# Altium footprint library CAN_BUS.PcbLib: 16 footprints
Each footprint in its own frame and in the unit in brackets; x right, y up, seen from the top. Pads: shape width x height; smd on the part's side, far side on the other; paste and mask are expansions set on the pad; w line width, h text height; cw(c..) or ccw(c..) is an arc to the next point about the centre after c.
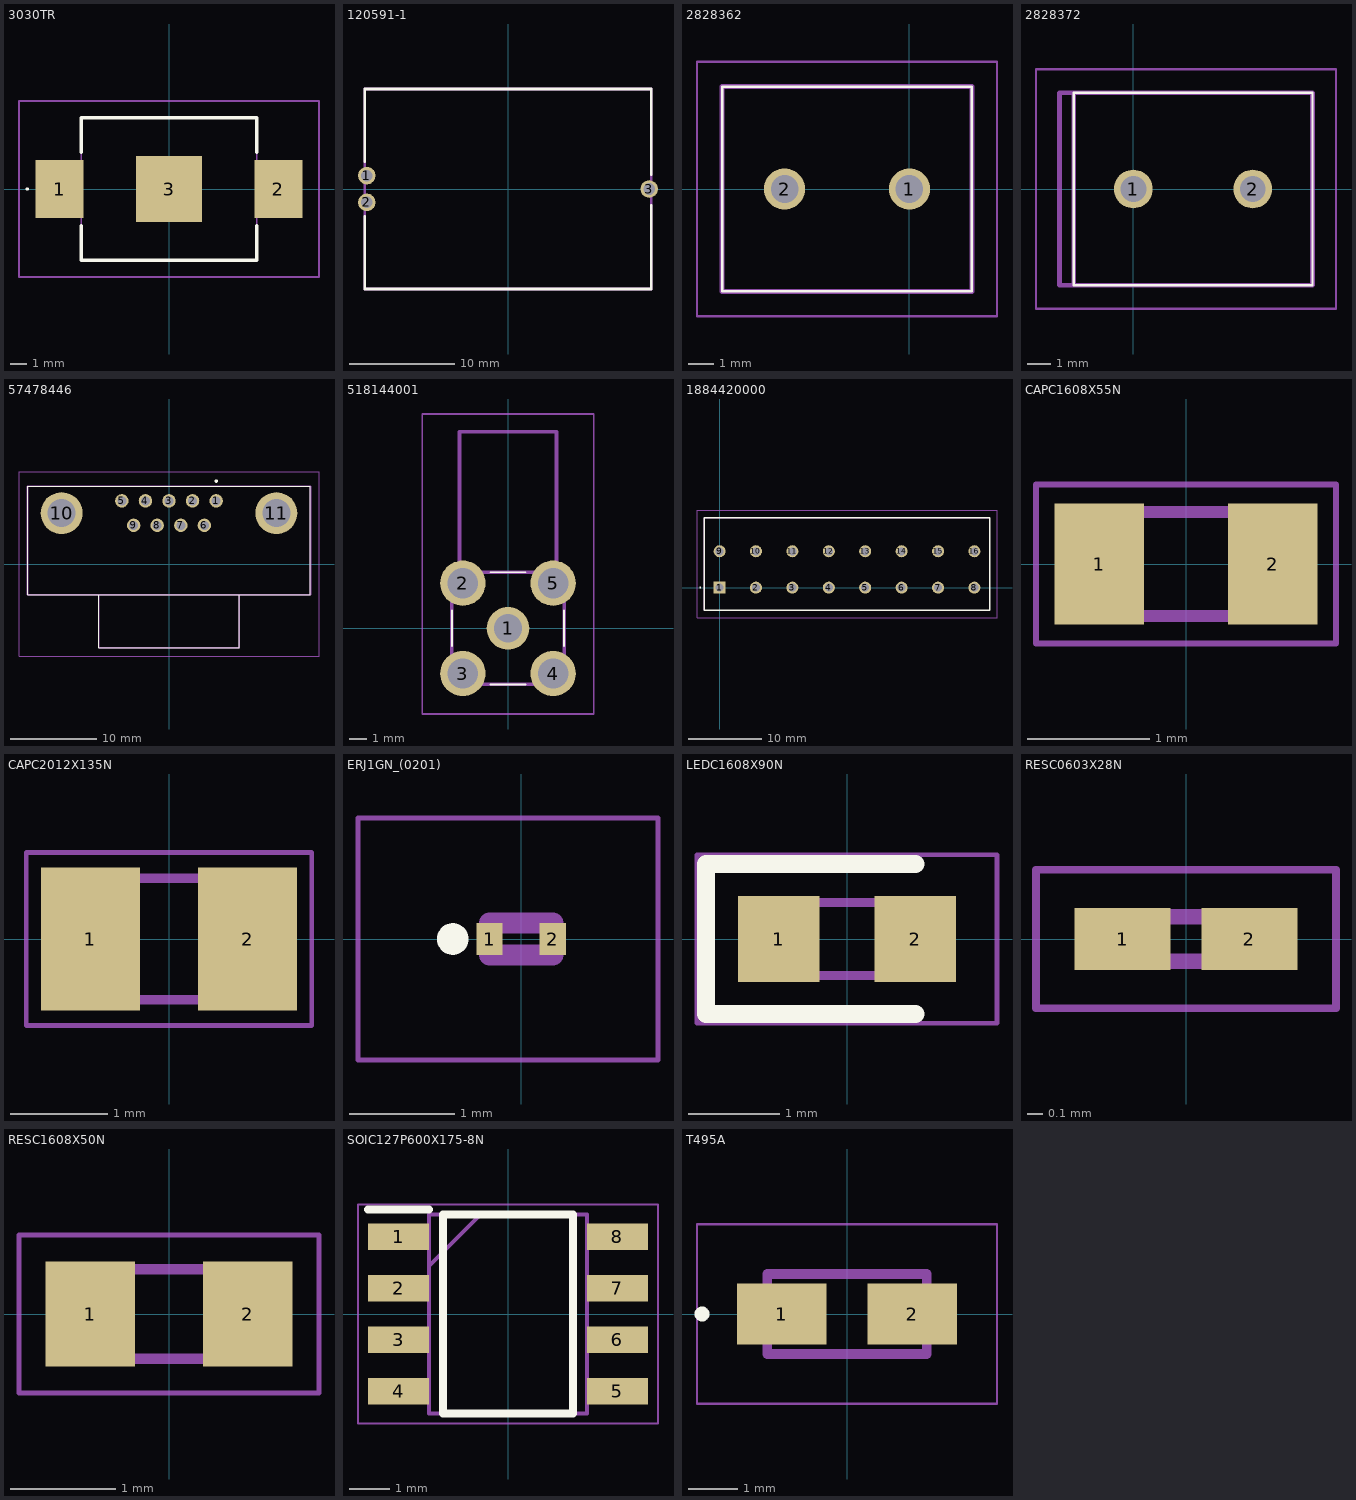
[diagram p0: the footprints below, top view; thin cyan lines are the x and y axes]

## 3030TR [mm]
pads (3):
  rect 2.9x3.5 smd: 1(-6.6,0) 2(6.6,0)
  rect 3.96x3.96 smd: 3(0,0)
Top Overlay:
  lines w0.1: -8.6,0 ccw(c-8.55,0) -8.5,0 ccw(c-8.55,0) -8.6,0
  lines w0.2: -5.3,-2.2 -5.3,-4.305 5.3,-4.305 5.3,-2.2 ; -5.3,2.2 -5.3,4.305 5.3,4.305 5.3,2.2
Mechanical 13:
  lines w0.1: -5.3,-4.305 5.3,-4.305 5.3,4.305 -5.3,4.305 -5.3,-4.305
Mechanical 15:
  lines w0.1: -9.05,-5.305 9.05,-5.305 9.05,5.305 -9.05,5.305 -9.05,-5.305
3D body "3030TR.stp": height 4.61, standoff -4, extent -8.052,0 8.052,2.952

## 120591-1 [mm]
pads (3):
  round 1.67 hole 1.12: 1(-13.46,1.27) 2(-13.46,-1.27) 3(13.46,0)
Top Overlay:
  lines w0.254: -13.65,-2.62 -13.65,-9.525 13.65,-9.525 13.65,-1.538 ; -13.65,2.615 -13.65,9.525 13.65,9.525 13.65,1.359
Mechanical 13:
  lines w0.254: -13.65,-9.525 -13.65,9.525 13.65,9.525 13.65,-9.525 -13.65,-9.525
3D body "120591-1.stp": height 6.32, standoff -3.13, extent -13.684,-9.525 13.621,9.525

## 2828362 [mm]
pads (2):
  round 1.65 hole 1.1: 1(0,0) 2(-5,0)
Top Overlay:
  lines w0.1: -7.5,-4.1 2.5,-4.1 2.5,4.1 -7.5,4.1 -7.5,-4.1
Mechanical 13:
  lines w0.2: -7.5,-4.1 -7.5,4.1 2.5,4.1 2.5,-4.1 -7.5,-4.1
Mechanical 15:
  lines w0.1: -8.5,-5.1 3.5,-5.1 3.5,5.1 -8.5,5.1 -8.5,-5.1
3D body "282836-2.stp": height 10.02, standoff -3.48, extent -8.09,-4.1 2.51,4.1

## 2828372 [mm]
pads (2):
  round 1.65 hole 1.1: 1(0,0) 2(5.08,0)
Top Overlay:
  lines w0.1: -2.54,-4.1 -2.54,4.1 7.62,4.1 7.62,-4.1 -2.54,-4.1
Mechanical 13:
  lines w0.2: -2.54,-4.1 -3.14,-4.1 -3.14,4.1 -2.54,4.1 ; -2.54,-4.1 -2.54,4.1 ; -2.54,-4.1 -2.54,4.1 ; -2.54,-4.1 7.62,-4.1 7.62,4.1 -2.54,4.1
Mechanical 15:
  lines w0.1: -4.14,-5.1 -4.14,5.1 8.62,5.1 8.62,-5.1 -4.14,-5.1
3D body "282837-2.stp": height 9.84, standoff -3.66, extent -2.51,-4.11 8.25,4.09

## 57478446 [mil]
pads (11):
  round 61.5 hole 41: 1(215.98,289.13) 2(107.99,289.13) 3(0,289.13) 4(-107.99,289.13) 5(-215.98,289.13) 6(162.01,177.13) 7(54.02,177.13) 8(-54.02,177.13) 9(-162.01,177.13)
  round 192 hole 128: 10(-492.01,233.11) 11(492.01,233.11)
Top Overlay:
  lines w3.94: -321.5,-140.87 -321.5,-383.86 321.5,-383.86 321.5,-140.87 ; -647.99,-140.87 -647.99,356.14 647.99,356.14 647.99,-140.87 -647.99,-140.87
  lines w7.87: 212.6,379.92 ccw(c216.54,379.92) 220.47,379.92 ccw(c216.54,379.92) 212.6,379.92
Mechanical 13:
  lines w7.87: -321.5,-140.87 -321.5,-383.86 321.5,-383.86 321.5,-140.87 ; -647.99,-140.87 -647.99,356.14 647.99,356.14 647.99,-140.87 -647.99,-140.87
Mechanical 15:
  lines w3.94: -687.36,-423.23 -687.36,423.23 687.36,423.23 687.36,-423.23 -687.36,-423.23
3D body "5747844-6.stp": height 484.4, standoff -138, extent -610,-383.24 610,360.66

## 518144001 [mm]
pads (5):
  round 2.4 hole 1.6: 1(0,0)
  round 2.55 hole 1.7: 2(-2.54,2.54) 3(-2.54,-2.54) 4(2.54,-2.54) 5(2.54,2.54)
Top Overlay:
  lines w0.1: -3.15,-1 -3.15,1 ; -1,-3.15 1,-3.15 ; -1,3.15 1,3.15 ; 3.15,-1 3.15,1
Mechanical 13:
  lines w0.2: -2.725,3.15 -2.725,11.05 2.725,11.05 2.725,3.15 ; -3.15,-3.15 -3.15,3.15 3.15,3.15 3.15,-3.15 -3.15,-3.15
Mechanical 15:
  lines w0.1: -4.815,-4.815 -4.815,12.05 4.815,12.05 4.815,-4.815 -4.815,-4.815
3D body "5-1814400-1.stp": height 10.52, standoff -3.01, extent -3.164,-3.17 3.164,11.03

## 1884420000 [mm]
pads (16):
  rect 1.65x1.65 hole 1.1: 1(0,0)
  round 1.65 hole 1.1: 2(5,0) 3(10,0) 4(15,0) 5(20,0) 6(25,0) 7(30,0) 8(35,0) 9(0,5) 10(5,5) 11(10,5) 12(15,5) 13(20,5) 14(25,5) 15(30,5) 16(35,5)
Top Overlay:
  lines w0.1: -2.7,0 ccw(c-2.65,0) -2.6,0 ccw(c-2.65,0) -2.7,0
  lines w0.2: -2.1,-3.1 -2.1,9.6 37.1,9.6 37.1,-3.1 -2.1,-3.1
Mechanical 13:
  lines w0.1: -2.1,-3.1 -2.1,9.6 37.1,9.6 37.1,-3.1 -2.1,-3.1
Mechanical 15:
  lines w0.1: -3.1,-4.1 -3.1,10.6 38.1,10.6 38.1,-4.1 -3.1,-4.1
3D body "1884420000.stp": height 13.06, standoff -3.6, extent -2.1,-3.1 37.1,9.6

## CAPC1608X55N [mm]
pads (2):
  rect 0.73x0.99 smd: 1(-0.71,0) 2(0.71,0)
Mechanical 13:
  lines w0.1: -0.8,-0.425 -0.8,0.425 0.8,0.425 0.8,-0.425 -0.8,-0.425
Mechanical 15:
  lines w0.05: -1.225,-0.65 -1.225,0.65 1.225,0.65 1.225,-0.65 -1.225,-0.65
3D body "CRCW0603330RFKEAHP.stp": height 0.55, standoff 0, extent -0.8,-0.425 0.8,0.425

## CAPC2012X135N [mm]
pads (2):
  rect 1.02x1.47 smd: 1(-0.81,0) 2(0.81,0)
Mechanical 13:
  lines w0.1: -1.005,-0.625 -1.005,0.625 1.005,0.625 1.005,-0.625 -1.005,-0.625
Mechanical 15:
  lines w0.05: -1.47,-0.89 -1.47,0.89 1.47,0.89 1.47,-0.89 -1.47,-0.89
3D body "KGM21AR71E225KU.stp": height 1.35, standoff 0, extent -1.005,-0.625 1.005,0.625

## ERJ1GN_(0201) [mm]
pads (2):
  rect 0.25x0.3 smd: 1(-0.3,0) 2(0.3,0)
Top Overlay:
  circle w0.2: c-0.65,0 r0.05
Mechanical 13:
  lines w0.2: -0.3,-0.15 -0.3,0.15 0.3,0.15 0.3,-0.15 -0.3,-0.15
Mechanical 15:
  lines w0.05: -1.55,-1.15 -1.55,1.15 1.3,1.15 1.3,-1.15 -1.55,-1.15
3D body "ERJ-1GNF1200C.stp": height 0.23, standoff 0, extent -0.3,-0.15 0.3,0.15

## LEDC1608X90N [mm]
pads (2):
  rect 0.9x0.95 smd: 1(-0.75,0) 2(0.75,0)
Top Overlay:
  lines w0.2: 0.75,-0.825 -1.55,-0.825 -1.55,0.825 0.75,0.825
Mechanical 13:
  lines w0.1: -0.8,0.133 -0.533,0.4 ; -0.8,-0.4 -0.8,0.4 0.8,0.4 0.8,-0.4 -0.8,-0.4
Mechanical 15:
  lines w0.05: -1.65,-0.925 -1.65,0.925 1.65,0.925 1.65,-0.925 -1.65,-0.925
3D body "LTST-C190GKT.stp": height 0.8, standoff 0, extent -0.82,-0.4 0.78,0.4

## PCBComponent_1 [mm]

## RESC0603X28N [mm]
pads (2):
  rect 0.625x0.4 smd: 1(-0.412,0) 2(0.412,0)
Mechanical 13:
  lines w0.1: -0.29,-0.145 -0.29,0.145 0.29,0.145 0.29,-0.145 -0.29,-0.145
Mechanical 15:
  lines w0.05: -0.975,-0.45 -0.975,0.45 0.975,0.45 0.975,-0.45 -0.975,-0.45
3D body "CPF0201D10K2C1.stp": height 0.28, standoff 0, extent -0.29,-0.145 0.29,0.145

## RESC1608X50N [mm]
pads (2):
  rect 0.85x1 smd: 1(-0.75,0) 2(0.75,0)
Mechanical 13:
  lines w0.1: -0.788,-0.425 -0.788,0.425 0.788,0.425 0.788,-0.425 -0.788,-0.425
Mechanical 15:
  lines w0.05: -1.425,-0.75 -1.425,0.75 1.425,0.75 1.425,-0.75 -1.425,-0.75
3D body "CRCW0603330RFKEA.stp": height 0.35, standoff 0, extent -0.5,-0.25 0.5,0.25

## SOIC127P600X175-8N [mm]
pads (8):
  rect 1.5x0.65 smd: 1(-2.7,1.905) 2(-2.7,0.635) 3(-2.7,-0.635) 4(-2.7,-1.905) 5(2.7,-1.905) 6(2.7,-0.635) 7(2.7,0.635) 8(2.7,1.905)
Top Overlay:
  lines w0.2: -3.45,2.58 -1.95,2.58 ; -1.6,-2.45 -1.6,2.45 1.6,2.45 1.6,-2.45 -1.6,-2.45
Mechanical 13:
  lines w0.1: -1.95,1.18 -0.68,2.45 ; -1.95,-2.45 -1.95,2.45 1.95,2.45 1.95,-2.45 -1.95,-2.45
Mechanical 15:
  lines w0.05: -3.7,-2.7 -3.7,2.7 3.7,2.7 3.7,-2.7 -3.7,-2.7
3D body "MCP2551-I_SN.stp": height 1.75, standoff 0, extent -3,-2.45 3,2.45

## T495A [mm]
pads (2):
  rect 1.8x1.23 smd: 1(-1.31,0) 2(1.31,0)
Top Overlay:
  circle w0.2: c-2.91,0 r0.05
Mechanical 13:
  lines w0.2: -1.6,-0.8 -1.6,0.8 1.6,0.8 1.6,-0.8 -1.6,-0.8
Mechanical 15:
  lines w0.05: -3.01,-1.8 -3.01,1.8 3.01,1.8 3.01,-1.8 -3.01,-1.8
3D body "T495A226K010ATE1K2.stp": height 1.81, standoff 0, extent -1.7,-0.9 1.7,0.9